# Altium schematic symbol library Schlib1.SchLib: 1 symbol
Pins are listed as number, name and electrical type; pins without a type are passive.

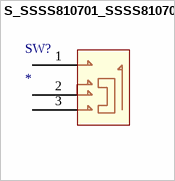
[diagram p0: symbol S_SSSS810701_SSSS810701]

## S_SSSS810701_SSSS810701
designator SW?
SSSS810701
footprint SSSS810701
pins: 1, 2, 3